# Altium schematic symbol library LV_module.SchLib: 17 symbols
Pins are listed as number, name and electrical type; pins without a type are passive.

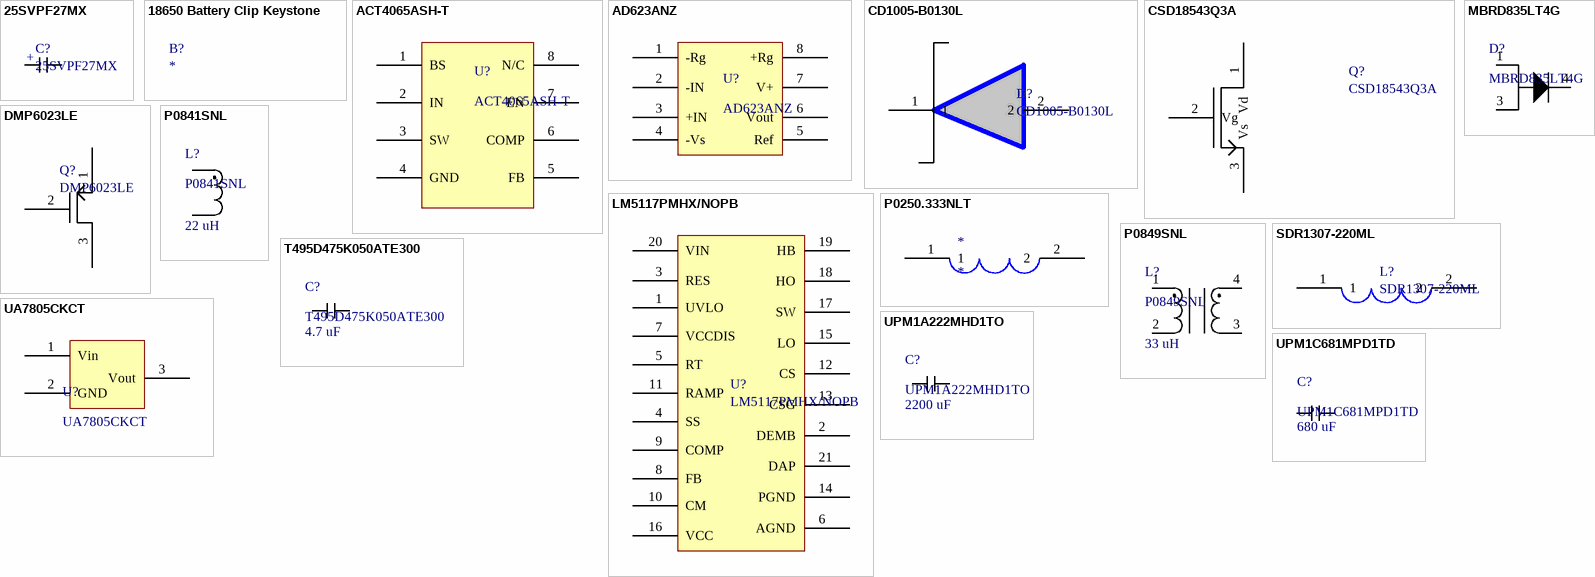
[diagram p0: symbols 25SVPF27MX to UPM1C681MPD1TD]

## 25SVPF27MX
designator C?
Conductive Polymer Aluminum Solid Capacitors, polarized
pins: 1, 2
text: +

## 18650 Battery Clip Keystone
designator B?
18650 Battery Clip Keystone

## ACT4065ASH-T
designator U?
5V Output Switching Regulator, 2Amps; ComponentLink1Description: Datasheet; ComponentLink1URL: https://www.mouser.com/ProductDetail/Active-Semi/ACT4065ASH-T?qs=sGAEpiMZZMvAX9OfPh%252b2NeqUkjSUWQ9oy%252bwbbBTwkTCsDZWqo0z0MQ%3d%3d
footprint ACT4065ASH-T (5V Output Switching Regulator, 2 Amps)
pins: 1 BS, 2 IN, 3 SW, 4 GND, 5 FB, 6 COMP, 7 EN, 8 N/C

## AD623ANZ
designator U?
Amplifier Circuit Strain Gauge; ComponentLink1Description: Datasheet; ComponentLink1URL: http://www.analog.com/media/en/technical-documentation/data-sheets/AD623.pdf
pins: 1 -Rg, 2 -IN, 3 +IN, 4 -Vs, 5 Ref, 6 Vout, 7 V+, 8 +Rg

## CD1005-B0130L
designator D?
Schottky Barrier Chip Diode Series
footprint CD1005-B0130L (Schottky Barrier Chip Diode Series)
pins: 1, 2

## CSD18543Q3A
designator Q?
60-V N-Channel NexFET™ Power MOSFET
footprint CSD18543Q3A (60-V N-Channel NexFET™ Power MOSFET)
pins: 1 Vd, 2 Vg, 3 Vs

## DMP6023LE
designator Q?
60V P-CHANNEL ENHANCEMENT MODE MOSFET
footprint DMP6023LE (60V P-CHANNEL ENHANCEMENT MODE MOSFET)
pins: 1 Vd, 2 Vg, 3 Vs

## LM5117PMHX/NOPB
designator U?
Wide Input Range Synchronous Buck Controller with Analog Current Monitor
footprint LM5117PMHX/NOPB (Wide Input Range Synchronous Buck Controller with Analog Current Monitor)
pins: 1 UVLO, 2 DEMB, 3 RES, 4 SS, 5 RT, 6 AGND, 7 VCCDIS, 8 FB, 9 COMP, 10 CM, 11 RAMP, 12 CS, 13 CSG, 14 PGND, 15 LO, 16 VCC, 17 SW, 18 HO, 19 HB, 20 VIN, 21 DAP

## MBRD835LT4G
designator D?
ON Semiconductor Shottky diode
footprint MBRD835LT4G (ON Semiconductor Shottky diode)
pins: 1, 3, 4

## P0250.333NLT
designator *
Inductor
footprint P0250.333NLT
pins: 1, 2

## P0841SNL
designator L?  value 22 uH
Pulse electronics inductor 22uH 5A 36 mOHM SMD
footprint P0841SNL (Pulse electronics inductor 22uH 5A 36 mOHM SMD)
pins: 1, 2

## P0849SNL
designator L?  value 33 uH
Pulse electronics inductor 33UH 5A 19 MOHM SMD (Series connect pin2-4)
footprint P0849SNL (Pulse electronics inductor 33UH 5A 19 MOHM SMD)
pins: 1, 2, 3, 4

## SDR1307-220ML
designator L?
SMD Power Inductors
footprint SDR1307-220ML (SMD Power Inductors)
pins: 1, 2

## T495D475K050ATE300
designator C?  value 4.7 uF
KEMET Capacitor (Case D)
footprint T495D475K050ATE300 (KEMET Capacitor (Case D))
pins: 1, 2

## UA7805CKCT
designator U?
5V Linear Voltage Regulator, 1.5A
footprint UA7805CKCT (5V Linear Voltage Regulator, 1.5A)
pins: 1 Vin, 2 GND, 3 Vout

## UPM1A222MHD1TO
designator C?  value 2200 uF
Nichicon Capacitor 2200 uF
footprint UPM1A222MHD1TO (Nichicon 2200 uF)
pins: 1, 2

## UPM1C681MPD1TD
designator C?  value 680 uF
Nichicon Capacitor 680uF
footprint UPM1C681MPD1TD (Nichicon Capacitor 680uF)
pins: 1, 2